# EAGLE library part NHD-0216SZW-BG5 (library NHD-0216SZW-BG5)
OLED Displays & Accessories OLED 2x16 Green 122.0 x 44.0 x 10 Source: Datasheet
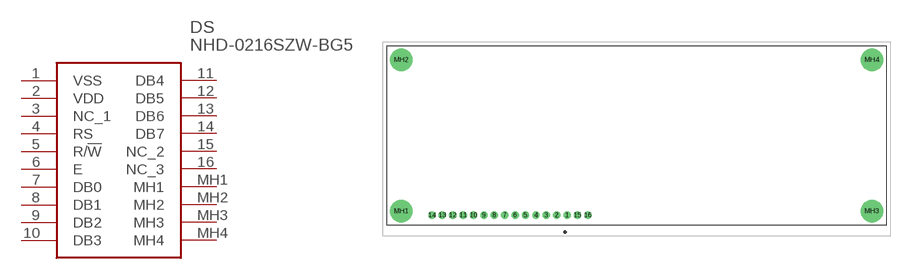
[diagram p0: symbol with the pads of NHD0216SZWBG5; footprint NHD0216SZWBG5]

Designator prefix DS

## NHD-0216SZW-BG5 (Description: OLED Displays & Accessories OLED 2x16 Green 122.0 x 44.0 x 10; Height: 10mm; Manufacturer_Name: Newhaven Display; Manufacturer_Part_Number: NHD-0216SZW-BG5; Mouser_Part_Number: 763-NHD-0216SZW-BG5; Mouser_Price-Stock: https://www.mouser.co.uk/ProductDetail/Newhaven-Display/NHD-0216SZW-BG5?qs=krDt2o00aZenELyoTT%252B0uA%3D%3D)  [NHD0216SZWBG5]
1  VSS
2  VDD
3  NC_1
4  RS
5  R/!W
6  E
7  DB0
8  DB1
9  DB2
10  DB3
11  DB4
12  DB5
13  DB6
14  DB7
15  NC_2
16  NC_3
MH1  MH1
MH2  MH2
MH3  MH3
MH4  MH4

## Footprint NHD0216SZWBG5 (pad centres in mm)
NHD-0216SZW-BG5-2
drill 1.2 pad 1.8: 1 0,0; 2 -2.54,0; 3 -5.08,0; 4 -7.62,0; 5 -10.16,0; 6 -12.7,0; 7 -15.24,0; 8 -17.78,0; 9 -20.32,0; 10 -22.86,0; 11 -25.4,0; 12 -27.94,0; 13 -30.48,0; 14 -33.02,0; 15 2.54,0; 16 5.08,0
drill 3.7 pad 5.55: MH1 -40.5,1; MH2 -40.5,38; MH3 74.5,1; MH4 74.5,38